# EAGLE library part SIM800C (library UNIT_Biblioteca_Modulos)
SIM800C GSM GPRS IPEX Bluetooth TTS Source: Datasheet <https://uelectronics.com/wp-content/uploads/2018/12/AR0856-SIM800C-Datasheet.pdf> SKU: Propietario: UNIT Electronics Desarrollador: Alberto Villanueva
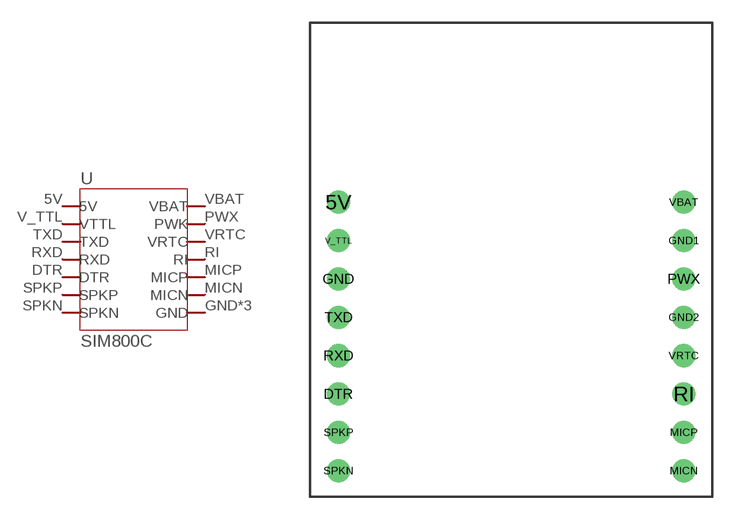
[diagram p19: symbol with the pads of SIM800C; footprint SIM800C]

Designator prefix U

## SIM800C (CLASS: Modules; DESCRIPTION: SIM800C GSM GPRS IPEX Bluetooth TTS; MANUFACTURER_NAME: SIMCom; MANUFACTURER_PART_NUMBER: SIM800C; VENDOR_PART_NUMBER: AR0856; VENDOR_PRICE-STOCK: https://uelectronics.com/producto/sim800c-gsm-gprs-ipex-bluetooth-tts/)  [SIM800C]
5V  5V
DTR  DTR
GND  GND
GND1  GND
GND2  GND
MICN  MICN
MICP  MICP
PWX  PWK
RI  RI
RXD  RXD
SPKN  SPKN
SPKP  SPKP
TXD  TXD
V_TTL  VTTL
VBAT  VBAT
VRTC  VRTC

## Footprint SIM800C (pad centres in mm)
drill 1.02: 5V -11.43,3.81; DTR -11.43,-8.89; GND -11.43,-1.27; GND1 11.43,1.27; GND2 11.43,-3.81; MICN 11.43,-13.97; MICP 11.43,-11.43; PWX 11.43,-1.27; RI 11.43,-8.89; RXD -11.43,-6.35; SPKN -11.43,-13.97; SPKP -11.43,-11.43; TXD -11.43,-3.81; V_TTL -11.43,1.27; VBAT 11.43,3.81; VRTC 11.43,-6.35